# Altium schematic symbol library FC681465P.SchLib: 2 symbols
Pins are listed as number, name and electrical type; pins without a type are passive.

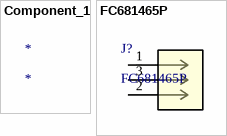
[diagram p0: symbols Component_1 to FC681465P]

## Component_1
designator *

## FC681465P
designator J?
No Description Available; Mfr_Name: Cliff; Copyright: Copyright (C) 2022 Ultra Librarian. All rights reserved.; Manufacturer_Part_Number: FC681465P; RefDes: RefDes; Type: DEV
footprint CONN3_FC681465P_CLF
pins: 1, 2, 3